# Altium footprint library AS5050A.PcbLib: 1 footprints
Each footprint in its own frame and in the unit in brackets; x right, y up, seen from the top. Pads: shape width x height; smd on the part's side, far side on the other; paste and mask are expansions set on the pad; w line width, h text height; cw(c..) or ccw(c..) is an arc to the next point about the centre after c.
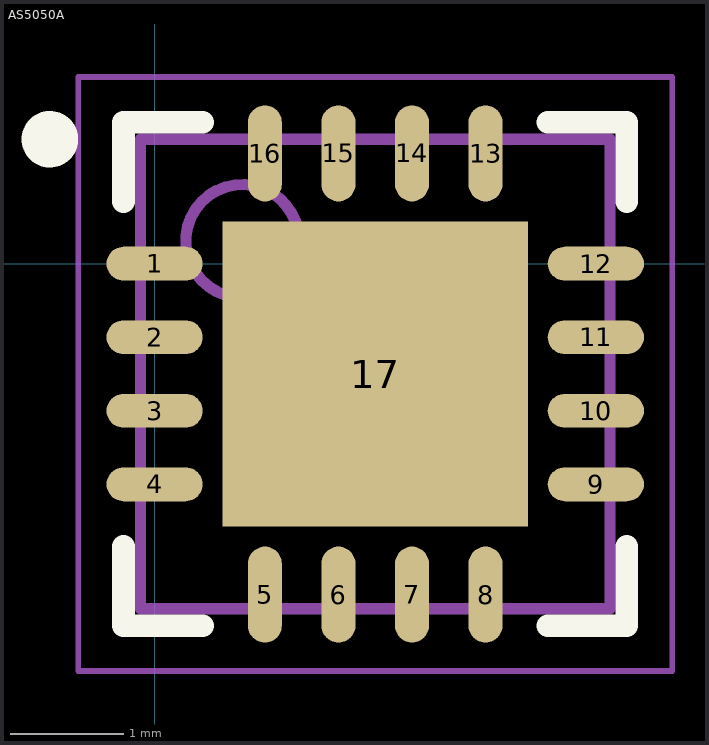
[diagram p0: the footprint, top view; thin cyan lines are the x and y axes]

## AS5050A [mm]
height 0.022
pads (17):
  oval 0.85x0.3 smd: 1(0,0) 2(0,-0.65) 3(0,-1.3) 4(0,-1.95) 9(3.9,-1.95) 10(3.9,-1.3) 11(3.9,-0.65) 12(3.9,0)
  oval 0.3x0.85 smd: 5(0.975,-2.925) 6(1.625,-2.925) 7(2.275,-2.925) 8(2.925,-2.925) 13(2.925,0.975) 14(2.275,0.975) 15(1.625,0.975) 16(0.975,0.975)
  rect 2.7x2.7 smd: 17(1.95,-0.975)
Top Overlay:
  circle w0.25: c-0.925,1.1 r0.125
  lines w0.2: -0.275,-2.5 -0.275,-3.2 0.425,-3.2 ; -0.275,0.55 -0.275,1.25 0.425,1.25 ; 3.475,-3.2 4.175,-3.2 4.175,-2.5 ; 3.475,1.25 4.175,1.25 4.175,0.55
Mechanical 13:
  circle w0.1: c0.775,0.2 r0.5
  lines w0.1: -0.125,-3.05 4.025,-3.05 4.025,1.1 -0.125,1.1 -0.125,-3.05
Mechanical 15:
  lines w0.05: -0.675,-3.6 4.575,-3.6 4.575,1.65 -0.675,1.65 -0.675,-3.6
  lines w0.1: 1.45,-0.975 2.45,-0.975 ; 1.95,-1.475 1.95,-0.475
3D body: height 0.9, standoff 0.02, extent -0.125,-3.05 4.025,1.1